# EAGLE library part PSAS-USB-FEMALE-CONNECTOR (library usb-connector)
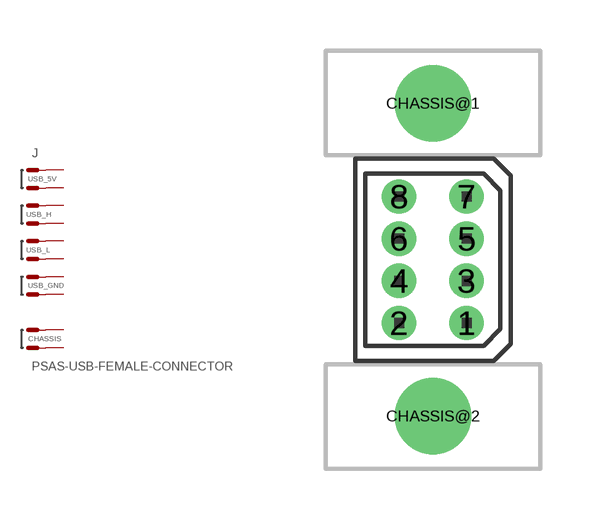
[diagram p1: symbol with the pads of USB-FEMALE_PKG; footprint USB-FEMALE_PKG]

Designator prefix J

## PSAS-USB-FEMALE-CONNECTOR  [USB-FEMALE_PKG]
1  5V  pwr
2  5V  pwr
3  USB_H  pas
4  USB_H  pas
5  USB_L  pas
6  USB_L  pas
7  GND  pwr
8  GND  pwr
CHASSIS@1  CHASSIS  pwr
CHASSIS@2  CHASSIS  pwr

## Footprint USB-FEMALE_PKG (pad centres in mm)
drill 0.508 pad 1.016 round: 1 1,-1.875; 2 -1,-1.875; 3 1,-0.625; 4 -1,-0.625; 5 1,0.625; 6 -1,0.625; 7 1,1.875; 8 -1,1.875
drill 1.511 round: CHASSIS@1 0,4.636; CHASSIS@2 0,-4.636